# Altium footprint library Panasonic Diodes.PcbLib: 1 footprints
Each footprint in its own frame and in the unit in brackets; x right, y up, seen from the top. Pads: shape width x height; smd on the part's side, far side on the other; paste and mask are expansions set on the pad; w line width, h text height; cw(c..) or ccw(c..) is an arc to the next point about the centre after c.
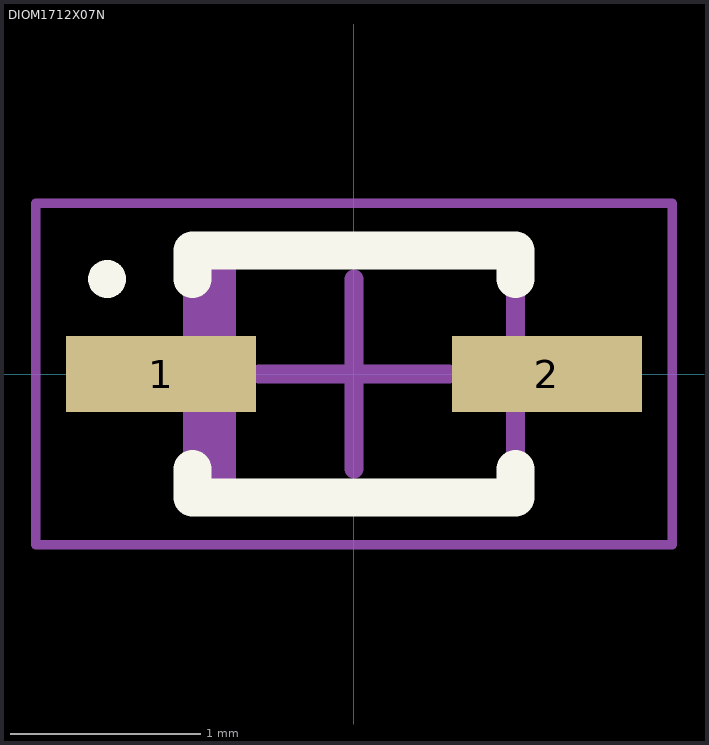
[diagram p0: the footprint, top view; thin cyan lines are the x and y axes]

## DIOM1712X07N [mm] "Molded Diode, 2-Leads, Body 1.70x1.25mm, IPC Medium Density"
height 0.7
pads (2):
  rect 1x0.4 smd: 1(-1.016,0) 2(1.016,0)
Top Overlay:
  circle w0.1: c-1.3,0.5 r0.05
  lines w0.2: -0.85,-0.5 -0.85,-0.65 0.85,-0.65 0.85,-0.5 ; -0.85,0.5 -0.85,0.65 0.85,0.65 0.85,0.5
Mechanical 13:
  rectangle: -0.85,-0.625 -0.621,0.625
  lines w0.1: -0.85,-0.625 0.85,-0.625 0.85,0.625 -0.85,0.625 -0.85,-0.625
Mechanical 15:
  lines w0.05: -1.675,-0.9 1.675,-0.9 1.675,0.9 -1.675,0.9 -1.675,-0.9
  lines w0.1: -0.5,0 0.5,0 ; 0,-0.5 0,0.5
3D body "User Library-Diode-SOD-523_SCD80_SC-79.STEP": height 0.8, standoff 0, extent -0.9,-0.449 0.9,0.45